# EAGLE library part CON-3_50MM-8P-1985250 (library SamacSys_Parts)
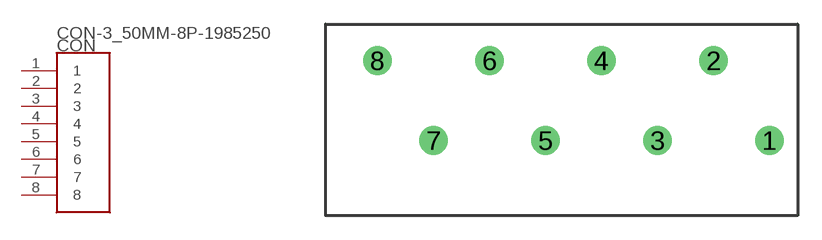
[diagram p27: symbol with the pads of CON-3_50MM-8P-1985250; footprint CON-3_50MM-8P-1985250]

Designator prefix CON

## CON-3_50MM-8P-1985250  [CON-3_50MM-8P-1985250]
1  1
2  2
3  3
4  4
5  5
6  6
7  7
8  8

## Footprint CON-3_50MM-8P-1985250 (pad centres in mm)
drill 1.2: 1 12.25,-2.5; 2 8.75,2.5; 3 5.25,-2.5; 4 1.75,2.5; 5 -1.75,-2.5; 6 -5.25,2.5; 7 -8.75,-2.5; 8 -12.25,2.5